# Altium schematic symbol library Schlib1.SchLib: 168 symbols (part 3 of 4)
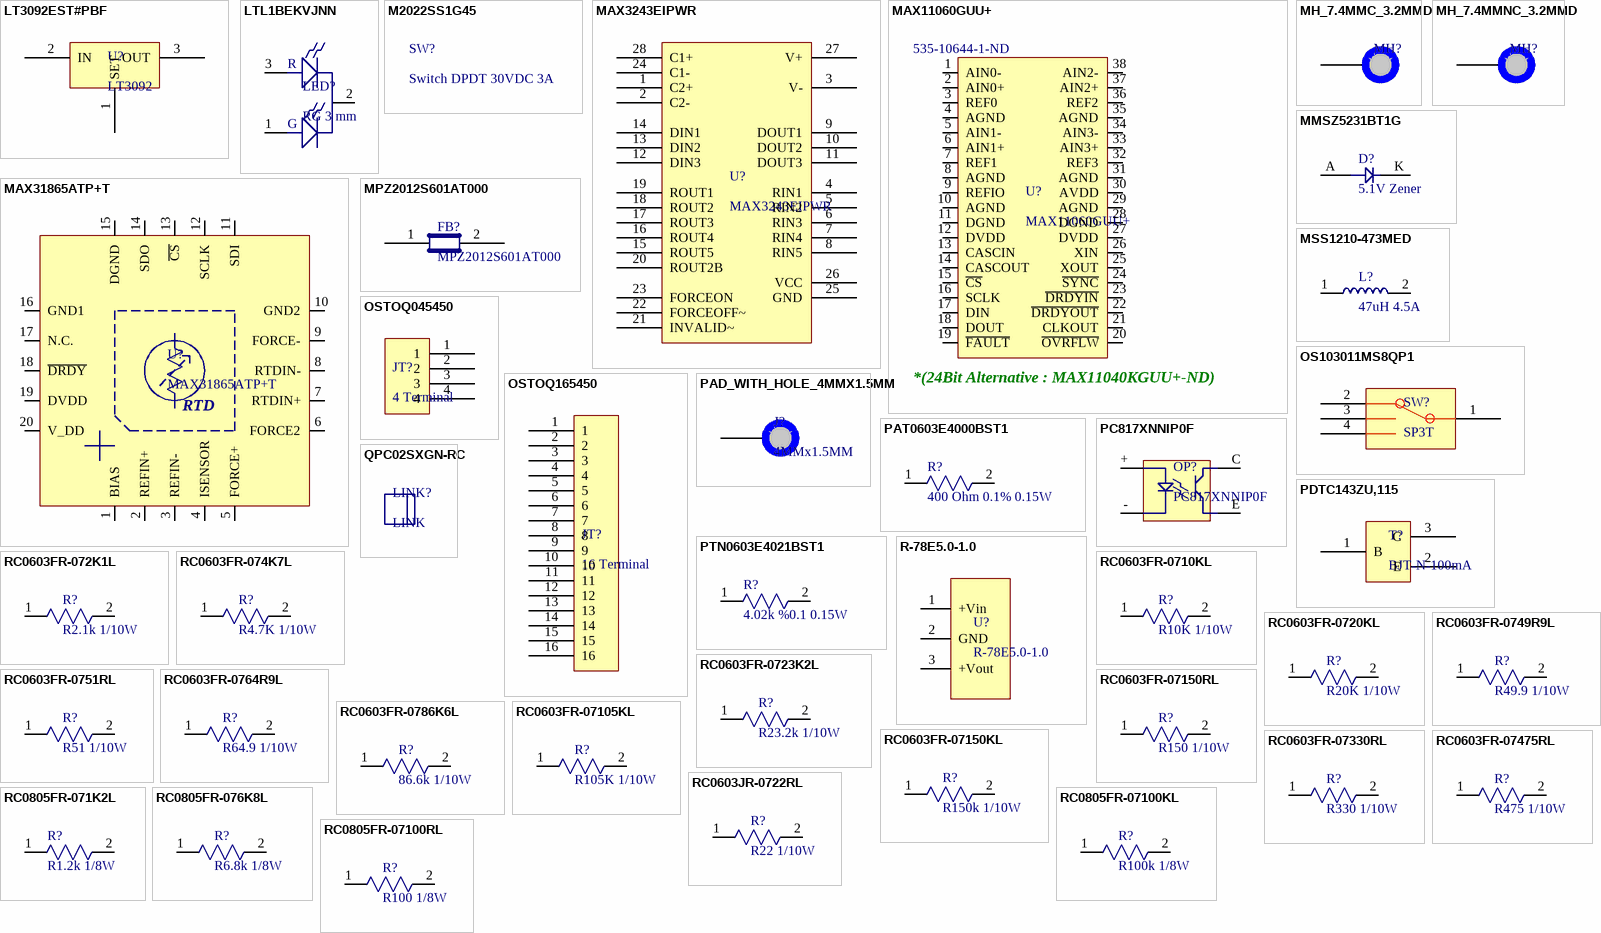
[diagram p7: symbols LT3092EST#PBF to RC0805FR-07100RL]

## MAX11060GUU+
designator U?  Supplier Part Number 2: 535-10644-1-ND
IC ADC 16BIT DELTA SIGMA 38TSSOP; Manufacturer: Maxim Integrated; Number of Bits: 16; Sampling Rate (Per Second): 64k; Number of Inputs: 4; Input Type: Differential; Data Interface: SPI; Architecture: Sigma-Delta; Reference Type: External, Internal; Voltage - Supply, Analog: 3 V ~ 3.6 V; Voltage - Supply, Digital: 2.7 V ~ 3.6 V; Frequency Stability: ±30ppm; Frequency Tolerance: ±20ppm; Load Capacitance: 18pF; Operating Mode: Fundamental; Supplier 1: Digi-Key; Manufacturer Part Number: MAX11060GUU+; RoHS: RoHS Compliant; Category: Integrated Circuits (ICs); Stock 1: 152; Pricing 1: 1=6.48, 10=6.218, 50=6.12 (USD); Packaging: Tube; Part Status: Active; Configuration: ADC; Ratio - S/H:ADC: -; Features: Simultaneous Sampling; Operating Temperature: -40°C ~ 105°C; Package / Case: 38-TFSOP (0.173", 4.40mm Width); Supplier Device Package: 38-TSSOP; Base Part Number: MAX11060; ComponentLink1URL: http://datasheets.maximintegrated.com/en/ds/MAX11040K-MAX11060.pdf; ComponentLink1Description: http://datasheets.maximintegrated.com/en/ds/MAX11040K-MAX11060.pdf; Supplier Part Number 1: MAX11060GUU+-ND; Supplier 2: Digi-Key; Stock 2: 4484; Pricing 2: 1=1.14, 10=1.012, 50=0.946, 100=0.836, 500=0.792 (USD); Type: MHz Crystal; Ratings: -; Mounting Type: Surface Mount; Size / Dimension: 0.197" L x 0.126" W (5.00mm x 3.20mm); Height - Seated (Max): 0.051" (1.30mm); ComponentLink2URL: http://www.abracon.com/Resonators/abm3.pdf; ComponentLink2Description: http://www.abracon.com/Resonators/abm3.pdf
footprint TSSOP50P640X110-38N_corrected (TSSOP, 38-Leads, Body 9.70x4.40mm, Pitch 0.50mm, IPC Medium Density)
pins: 1 AIN0-, 2 AIN0+, 3 REF0, 4 AGND, 5 AIN1-, 6 AIN1+, 7 REF1, 8 AGND, 9 REFIO, 10 AGND, 11 DGND, 12 DVDD, 13 CASCIN, 14 CASCOUT, 15 ~{CS}, 16 SCLK, 17 DIN, 18 DOUT, 19 ~{FAULT}, 20 ~{OVRFLW}, 21 CLKOUT, 22 ~{DRDYOUT}, 23 ~{DRDYIN}, 24 ~{SYNC}, 25 XOUT, 26 XIN, 27 DVDD, 28 DGND, 29 AGND, 30 AVDD, 31 AGND, 32 REF3, 33 AIN3+, 34 AIN3-, 35 AGND, 36 REF2, 37 AIN2+, 38 AIN2-
text: *(24Bit Alternative : MAX11040KGUU+-ND)

## MAX31865ATP+T
designator U?
IC RTD TO DIGITAL CONVERT 20TQFN; Manufacturer: Maxim Integrated; Function: Temp Monitoring System (Sensor); Sensor Type: External; Accuracy: ±0.5°C(Max); Topology: ADC (Sigma Delta), Comparator, Register Bank; Output Type: SPI; Output Alarm: No; Voltage - Supply: 3 V ~ 3.6 V; Supplier 1: Digi-Key; Manufacturer Part Number: MAX31865ATP+T; RoHS: RoHS Compliant; Category: Integrated Circuits (ICs); Stock 1: 11786; Pricing 1: 1=6.95, 10=6.554, 25=5.2428, 50=4.9806, 100=4.5875, 250=4.35156, 500=4.19426 (USD); Packaging: Cut Tape (CT); Part Status: Active; Sensing Temperature: -; Output Fan: No; Operating Temperature: -40°C ~ 125°C; Mounting Type: Surface Mount; Package / Case: 20-WQFN Exposed Pad; Supplier Device Package: 20-TQFN-EP (5x5); ComponentLink1URL: http://datasheets.maximintegrated.com/en/ds/MAX31865.pdf; ComponentLink1Description: http://datasheets.maximintegrated.com/en/ds/MAX31865.pdf; Supplier Part Number 1: MAX31865ATP+TCT-ND
footprint T2055+520TQFN_MAX31865_QFN65P500X500X80_HS-21N (QFN, 20-Leads, Body 5.00x5.00mm, Pitch 0.65mm, Thermal Pad 2.95x2.95mm, IPC Medium Density)
pins: 1 BIAS, 2 REFIN+, 3 REFIN-, 4 ISENSOR, 5 FORCE+, 6 FORCE2, 7 RTDIN+, 8 RTDIN-, 9 FORCE-, 10 GND2, 11 SDI, 12 SCLK, 13 ~{CS}, 14 SDO, 15 DGND, 16 GND1, 17 N.C., 18 ~{DRDY}, 19 DVDD, 20 V_DD
text: RTD

## MH_7.4MMC_3.2MMD
designator MH?  (value not drawn)  (no BOM)
Mounting Hole 7.4mm Diameter, 3.2mm Drill
footprint MH_7.4MMC_3.2MMD
pins: 1

## MH_7.4MMNC_3.2MMD
designator MH?  (value not drawn)  (no BOM)
Mounting Hole 7.4mm Diameter (Non Copper), 3.2mm Drill NPTH
footprint MH_7.4MMC_3.2MMD_NON_COPPER_NPTH
pins: 1

## MMSZ5231BT1G
designator D?, comment 5.1V Zener
DIODE ZENER 5.1V 500MW SOD123; Manufacturer: ON Semiconductor; Manufacturer Part Number: MMSZ5231BT1G; Tolerance: ±5%; Impedance (Max) (Zzt): 17 Ohm; Current - Reverse Leakage @ Vr: 5µA @ 2V; Voltage - Forward (Vf) (Max) @ If: 900mV @ 10mA; Supplier 1: Digi-Key; RoHS: RoHS Compliant; Category: Discrete Semiconductor Products; Stock 1: 24718; Pricing 1: 1=0.23, 10=0.192, 100=0.1016, 500=0.06682, 1000=0.04544 (USD); Packaging: Cut Tape (CT); Part Status: Active; Voltage - Zener (Nom) (Vz): 5.1V; Power - Max: 500mW; Operating Temperature: -55°C ~ 150°C; Mounting Type: Surface Mount; Package / Case: SOD-123; Supplier Device Package: SOD-123; ComponentLink1URL: http://www.onsemi.com/pub_link/Collateral/MMSZ5221BT1-D.PDF; ComponentLink1Description: http://www.onsemi.com/pub_link/Collateral/MMSZ5221BT1-D.PDF; Supplier Part Number 1: MMSZ5231BT1GOSCT-ND
footprint SOD-123
pins: A 1, K 2

## MPZ2012S601AT000
designator FB?
FERRITE BEAD 600 OHM 0805 1LN; Manufacturer: TDK Corporation; Filter Type: Power Line; Number of Lines: 1; Impedance @ Frequency: 600 Ohm @ 100MHz; Current Rating (Max): 2A; DC Resistance (DCR) (Max): 100 mOhm; Supplier 1: Digi-Key; Manufacturer Part Number: MPZ2012S601AT000; RoHS: RoHS Compliant; Category: Filters; Pricing 1: 1=0.11, 10=0.091, 25=0.0704, 50=0.0584, 100=0.0503, 250=0.04028, 500=0.03624, 1000=0.0302 (USD); Packaging: Cut Tape (CT); Part Status: Active; Ratings: -; Operating Temperature: -55°C ~ 125°C; Package / Case: 0805 (2012 Metric); Mounting Type: Surface Mount; Height (Max): 0.041" (1.05mm); Size / Dimension: 0.079" L x 0.049" W (2.00mm x 1.25mm); ComponentLink1URL: https://product.tdk.com/info/en/catalog/datasheets/beads_commercial_power_mpz2012_en.pdf; ComponentLink1Description: https://product.tdk.com/info/en/catalog/datasheets/beads_commercial_power_mpz2012_en.pdf; Supplier Part Number 1: 445-2206-1-ND; Stock: 308728
footprint C0805
pins: 1, 2

## MSS1210-473MED
designator L?, comment 47uH 4.5A
Man. PN: MSS1210-473MED; Man.: CoilCraft; Supplier: Farnell; Farnell PN: 2288335
footprint CoilC47
pins: 1, 2

## OS103011MS8QP1
designator SW?, comment SP3T
SWITCH SLIDE SP3T 100MA 12V; Manufacturer: C&K Components; Manufacturer Part Number: OS103011MS8QP1; Contact Timing: Not Specified; Switch Function: On-On-On; Current Rating: 100mA (DC); Actuator Type: Standard; Actuator Length: 4.00mm; Actuator Material: Polyoxymethylene (Acetal) (POM); Switch Travel: 2.00mm; Mechanical Life: 10,000 Cycles; Supplier 1: Digi-Key; RoHS: RoHS Compliant; Category: Switches; Stock 1: 13340; Pricing 1: 1=0.5, 10=0.482, 25=0.4724, 50=0.4222, 100=0.402, 250=0.39196, 500=0.33166, 1000=0.3216, 5000=0.2814 (USD); Packaging: Bulk; Circuit: SP3T; Voltage Rating - AC: -; Voltage Rating - DC: 12V; Contact Material: Copper Alloy; Contact Finish: Silver; Mounting Type: Through Hole; Termination Style: PC Pin; Features: Epoxy Sealed Terminals; Operating Temperature: -30°C ~ 70°C; Electrical Life: 10,000 Cycles; Operating Force: -; ComponentLink1URL: http://www.ck-components.com/media/1428/os.pdf; ComponentLink1Description: http://www.ck-components.com/media/1428/os.pdf; Supplier Part Number 1: CKN9543-ND
pins: 1, 2, 3, 4

## OSTOQ045450
designator JT?, comment 4 Terminal
TERM BLOCK HDR 4POS VERT 5.08MM; Manufacturer: On Shore Technology Inc.; Manufacturer Part Number: OSTOQ045450; Number of Positions: 4; Number of Levels: 1; Pitch: 0.200" (5.08mm); Header Orientation: Vertical; Current - UL: 20A; Voltage - UL: 300V; Supplier 1: Digi-Key; RoHS: RoHS Compliant; Category: Connectors, Interconnects; Stock 1: 3848; Pricing 1: 1=0.47, 10=0.438, 50=0.3504, 100=0.3358, 250=0.3066, 500=0.292, 1000=0.2409, 2500=0.219, 5000=0.2117 (USD); Packaging: Bulk; Part Status: Active; Type: Header, Male Pins, Shrouded (4 Side); Positions Per Level: 4; Plug Wire Entry: -; Termination Style: Solder; Mounting Type: Through Hole; Current - IEC: -; Voltage - IEC: -; Wire Gauge or Range - AWG: -; Wire Gauge or Range - mm²: -; Color: Green; Operating Temperature: -30°C ~ 105°C; Contact Mating Finish: Tin; Features: -; ComponentLink1URL: http://www.on-shore.com/wp-content/uploads/2015/09/ostoqxx5450.pdf; ComponentLink1Description: http://www.on-shore.com/wp-content/uploads/2015/09/ostoqxx5450.pdf; Supplier Part Number 1: ED2845-ND
footprint 5.08x4
pins: 1, 2, 3, 4

## OSTOQ165450
designator JT?, comment 16 Terminal
TERM BLOCK HDR 16POS VERT 5.08MM; Manufacturer: On Shore Technology Inc.; Manufacturer Part Number: OSTOQ165450; Number of Positions: 16; Number of Levels: 1; Pitch: 0.200" (5.08mm); Header Orientation: Vertical; Current - UL: 20A; Voltage - UL: 300V; Supplier 1: Digi-Key; RoHS: RoHS Compliant; Category: Connectors, Interconnects; Stock 1: 131; Pricing 1: 1=1.58, 10=1.431, 50=1.2848, 100=1.2264, 250=1.1096, 500=1.022, 1000=0.876, 2500=0.8176, 5000=0.77672 (USD); Packaging: Bulk; Type: Header, Male Pins, Shrouded (4 Side); Positions Per Level: 16; Plug Wire Entry: -; Termination Style: Solder; Mounting Type: Through Hole; Current - IEC: -; Voltage - IEC: -; Wire Gauge or Range - AWG: -; Wire Gauge or Range - mm²: -; Color: Green; Operating Temperature: -30°C ~ 105°C; Contact Mating Finish: Tin; Features: -; ComponentLink1URL: http://www.on-shore.com/wp-content/uploads/2015/09/ostoqxx5450.pdf; ComponentLink1Description: http://www.on-shore.com/wp-content/uploads/2015/09/ostoqxx5450.pdf; Supplier Part Number 1: ED2842-ND
footprint 5.08x16
pins: 1, 2, 3, 4, 5, 6, 7, 8, 9, 10, 11, 12, 13, 14, 15, 16

## PAD_WITH_HOLE_4MMX1.5MM
designator J?, comment 4MMx1.5MM  (no BOM)
Pad with a hole 4mm x 1.5mm
footprint PAD_WITH_HOLE_4MMX1.5MM
pins: 1

## PAT0603E4000BST1
designator R?, comment 400 Ohm 0.1% 0.15W
RES SMD 400 OHM 0.1% 0.15W 0603; Manufacturer: Vishay Thin Film; Manufacturer Part Number: PAT0603E4000BST1; Temperature Coefficient: ±25ppm/°C; Supplier 1: Digi-Key; RoHS: RoHS Compliant; Category: Resistors; Stock 1: 15792; Pricing 1: 1=0.97, 10=0.839, 100=0.5844 (USD); Packaging: Cut Tape (CT); Part Status: Active; Tolerance: ±0.1%; Power (Watts): 0.15W; Composition: Thin Film; Features: Anti-Sulfur, Automotive AEC-Q200, Moisture Resistant; Operating Temperature: -55°C ~ 155°C; Package / Case: 0603 (1608 Metric); Supplier Device Package: 0603; Size / Dimension: 0.064" L x 0.032" W (1.63mm x 0.81mm); Height - Seated (Max): 0.018" (0.46mm); Failure Rate: -; ComponentLink1URL: http://www.vishay.com/docs/60024/pat.pdf; ComponentLink1Description: http://www.vishay.com/docs/60024/pat.pdf; Supplier Part Number 1: PAT400ACT-ND
footprint R0603 - Thin Film Res
pins: 1, 2

## PC817XNNIP0F
designator OP?
OPTOISOLATOR 5KV TRANS 4SMD; Manufacturer: Sharp Microelectronics; Number of Channels: 1; Voltage - Isolation: 5000Vrms; Current Transfer Ratio (Min): 50% @ 5mA; Current Transfer Ratio (Max): 600% @ 5mA; Rise / Fall Time (Typ): 4µs, 3µs; Input Type: DC; Output Type: Transistor; Voltage - Output (Max): 80V; Current - Output / Channel: 50mA; Voltage - Forward (Vf) (Typ): 1.2V; Vce Saturation (Max): 200mV; Supplier 1: Digi-Key; Manufacturer Part Number: PC817XNNIP0F; RoHS: RoHS Compliant; Category: Isolators; Stock 1: 39296; Pricing 1: 1=0.59, 10=0.463, 25=0.386, 100=0.3326, 250=0.297, 500=0.25542, 1000=0.19721 (USD); Packaging: Cut Tape (CT); Turn On / Turn Off Time (Typ): -; Current - DC Forward (If) (Max): 50mA; Operating Temperature: -30°C ~ 100°C; Mounting Type: Surface Mount; Package / Case: 4-SMD, Gull Wing; Supplier Device Package: 4-SMD; ComponentLink1URL: http://www.sharpsma.com/webfm_send/1835; ComponentLink1Description: http://www.sharpsma.com/webfm_send/1835; Supplier Part Number 1: 425-2774-1-ND
pins: + 1, - 2, C 4, E 3

## PDTC143ZU,115
designator T?, comment BJT-N-100mA
TRANS PREBIAS NPN 200MW SOT323; Manufacturer: NXP USA Inc.; Manufacturer Part Number: PDTC143ZU,115; Transistor Type: NPN - Pre-Biased; Current - Collector (Ic) (Max): 100mA; Voltage - Collector Emitter Breakdown (Max): 50V; Resistor - Base (R1) (Ohms): 4.7k; Resistor - Emitter Base (R2) (Ohms): 47k; DC Current Gain (hFE) (Min) @ Ic, Vce: 100 @ 10mA, 5V; Vce Saturation (Max) @ Ib, Ic: 100mV @ 250µA, 5mA; Current - Collector Cutoff (Max): 1µA; Supplier 1: Digi-Key; RoHS: RoHS Compliant; Category: Discrete Semiconductor Products; Stock 1: 5260; Pricing 1: 1=0.33, 10=0.247, 100=0.14, 500=0.0927, 1000=0.07107 (USD); Packaging: Cut Tape (CT); Part Status: Active; Frequency - Transition: -; Power - Max: 200mW; Mounting Type: Surface Mount; Package / Case: SC-70, SOT-323; Supplier Device Package: SOT-323-3; ComponentLink1URL: http://www.nxp.com/documents/data_sheet/PDTC143Z_SER.pdf; ComponentLink1Description: http://www.nxp.com/documents/data_sheet/PDTC143Z_SER.pdf; Supplier Part Number 1: 568-11256-1-ND
footprint SOT323-SC70
pins: 1 B, 2 E, 3 C

## PTN0603E4021BST1
designator R?, comment 4.02k %0.1 0.15W
RES 4.02K OHM 0.1% 0.15W 0603; Manufacturer: Vishay Thin Film; Manufacturer Part Number: PTN0603E4021BST1; Temperature Coefficient: ±25ppm/°C; Supplier 1: Digi-Key; RoHS: RoHS Compliant; Category: Resistors; Stock 1: 2000; Pricing 1: 1=0.73, 10=0.606, 100=0.4071 (USD); Packaging: Cut Tape (CT); Part Status: Active; Tolerance: ±0.1%; Power (Watts): 0.15W; Composition: Thin Film; Features: Anti-Sulfur, Moisture Resistant, Non-Inductive; Operating Temperature: -55°C ~ 155°C; Package / Case: 0603 (1608 Metric); Supplier Device Package: 0603; Size / Dimension: 0.064" L x 0.032" W (1.63mm x 0.81mm); Height - Seated (Max): 0.020" (0.51mm); Failure Rate: -; ComponentLink1URL: http://www.vishay.com/docs/60026/ptn.pdf; ComponentLink1Description: http://www.vishay.com/docs/60026/ptn.pdf; Supplier Part Number 1: 764-1430-1-ND
footprint R0603 - Thin Film Res
pins: 1, 2

## QPC02SXGN-RC
designator LINK?, comment LINK  (mechanical)
CONN JUMPER SHORTING .100" GOLD; Manufacturer: Sullins Connector Solutions; Manufacturer Part Number: QPC02SXGN-RC; Gender: Female Sockets; Number of Positions or Pins (Grid): 2 (1 x 2); Pitch: 0.100" (2.54mm); Supplier 1: Digi-Key; RoHS: RoHS Compliant; Category: Connectors, Interconnects; Stock: 193061; Pricing 1: 1=0.13, 10=0.077, 25=0.0548, 50=0.0448, 100=0.0385, 250=0.03256, 500=0.0301, 1000=0.0266, 2500=0.021 (USD); Packaging: Bulk; Part Status: Active; Type: Open Top; Height: 0.235" (5.97mm); Contact Finish: Gold; Contact Finish Thickness: Flash; Color: Black; ComponentLink1URL: http://www.sullinscorp.com/drawings/284_SXGN_11510.pdf; ComponentLink1Description: http://www.sullinscorp.com/drawings/284_SXGN_11510.pdf; Supplier Part Number 1: S9337-ND

## R-78E5.0-1.0
designator U?
DC/DC CONVERTER 5V 5W; Manufacturer: Recom Power; Voltage - Input (Min): 8V; Voltage - Input (Max): 28V; Current - Output (Max): 1A; Efficiency: 91%; Supplier 1: Digi-Key; Manufacturer Part Number: R-78E5.0-1.0; RoHS: RoHS Compliant; Category: Power Supplies - Board Mount; Stock 1: 13022; Pricing 1: 1=3.26, 5=3.208, 10=3.162, 25=3.0692, 50=2.976, 100=2.883, 250=2.79, 500=2.604 (USD); Packaging: Tube; Part Status: Active; Type: Linear Regulator Replacement; Voltage - Output 1: 5V; Voltage - Output 2: -; Voltage - Output 3: -; Applications: ITE (Commercial); Features: SCP; Operating Temperature: -40°C ~ 85°C; Mounting Type: Through Hole; Package / Case: 3-SIP Module; Size / Dimension: 0.46" L x 0.33" W x 0.41" H (11.6mm x 8.5mm x 10.4mm); Control Features: -; ComponentLink1URL: https://www.recom-power.com/pdf/Innoline/R-78Exx-1.0.pdf; ComponentLink1Description: https://www.recom-power.com/pdf/Innoline/R-78Exx-1.0.pdf; Supplier Part Number 1: 945-2201-ND
footprint SIP3
pins: 1 +Vin, 2 GND, 3 +Vout

## RC0603FR-072K1L
designator R?, comment R2.1k 1/10W
RES SMD 2.1K OHM 1% 1/10W 0603; Manufacturer: Yageo; Manufacturer Part Number: RC0603FR-072K1L; Power (Watts): 0.1W, 1/10W; Temperature Coefficient: ±100ppm/°C; Supplier 1: Digi-Key; RoHS: RoHS Compliant; Category: Resistors; Stock 1: 226179; Pricing 1: 1=0.1, 10=0.013, 25=0.0092, 50=0.007, 100=0.0052, 250=0.00396, 500=0.00316, 1000=0.00233 (USD); Packaging: Cut Tape (CT); Part Status: Active; Resistance (Ohms): 2.1k; Tolerance: ±1%; Composition: Thick Film; Features: Moisture Resistant; Operating Temperature: -55°C ~ 155°C; Package / Case: 0603 (1608 Metric); Supplier Device Package: 0603; Size / Dimension: 0.063" L x 0.031" W (1.60mm x 0.80mm); Height - Seated (Max): 0.022" (0.55mm); Number of Terminations: 2; Failure Rate: -; ComponentLink1URL: http://www.yageo.com/NewPortal/yageodocoutput?fileName=/pdf/R-Chip/PYu-RC_Group_51_RoHS_L_4.pdf; ComponentLink1Description: http://www.yageo.com/NewPortal/yageodocoutput?fileName=/pdf/R-Chip/PYu-RC_Group_51_RoHS_L_4.pdf; Supplier Part Number 1: 311-2.10KHRCT-ND
footprint R0603
pins: 1, 2

## RC0603FR-074K7L
designator R?, comment R4.7K 1/10W
RES SMD 4.7K OHM 1% 1/10W 0603; Manufacturer: Yageo; Manufacturer Part Number: RC0603FR-074K7L; Power (Watts): 0.1W, 1/10W; Temperature Coefficient: ±100ppm/°C; Supplier 1: Digi-Key; RoHS: RoHS Compliant; Category: Resistors; Stock 1: 1238077; Pricing 1: 1=0.1, 10=0.014, 25=0.01, 100=0.0057, 250=0.00436, 500=0.00348, 1000=0.00257, 2500=0.00223 (USD); Packaging: Cut Tape (CT); Resistance (Ohms): 4.7k; Tolerance: ±1%; Composition: Thick Film; Features: Moisture Resistant; Operating Temperature: -55°C ~ 155°C; Package / Case: 0603 (1608 Metric); Supplier Device Package: 0603; Size / Dimension: 0.063" L x 0.031" W (1.60mm x 0.80mm); Height: 0.022" (0.55mm); Number of Terminations: 2; ComponentLink1URL: http://www.yageo.com/documents/recent/PYu-RC_Group_51_RoHS_L_04.pdf; ComponentLink1Description: http://www.yageo.com/documents/recent/PYu-RC_Group_51_RoHS_L_04.pdf; Supplier Part Number 1: 311-4.70KHRCT-ND
footprint R0603
pins: 1, 2

## RC0603FR-0710KL
designator R?, comment R10K 1/10W
RES SMD 10K OHM 1% 1/10W 0603; Manufacturer: Yageo; Manufacturer Part Number: RC0603FR-0710KL; Power (Watts): 0.1W, 1/10W; Temperature Coefficient: ±100ppm/°C; Supplier 1: Digi-Key; RoHS: RoHS Compliant; Category: Resistors; Stock 1: 14638740; Pricing 1: 1=0.1, 10=0.014, 25=0.01, 100=0.0057, 250=0.00436, 500=0.00348, 1000=0.00257, 2500=0.00223 (USD); Packaging: Cut Tape (CT); Resistance (Ohms): 10k; Tolerance: ±1%; Composition: Thick Film; Features: Moisture Resistant; Operating Temperature: -55°C ~ 155°C; Package / Case: 0603 (1608 Metric); Supplier Device Package: 0603; Size / Dimension: 0.063" L x 0.031" W (1.60mm x 0.80mm); Height: 0.022" (0.55mm); Number of Terminations: 2; ComponentLink1URL: http://www.yageo.com/documents/recent/PYu-RC_Group_51_RoHS_L_04.pdf; ComponentLink1Description: http://www.yageo.com/documents/recent/PYu-RC_Group_51_RoHS_L_04.pdf; Supplier Part Number 1: 311-10.0KHRCT-ND
footprint R0603
pins: 1, 2

## RC0603FR-0720KL
designator R?, comment R20K 1/10W
RES SMD 20K OHM 1% 1/10W 0603; Manufacturer: Yageo; Manufacturer Part Number: RC0603FR-0720KL; Power (Watts): 0.1W, 1/10W; Temperature Coefficient: ±100ppm/°C; Supplier 1: Digi-Key; RoHS: RoHS Compliant; Category: Resistors; Stock 1: 1549434; Pricing 1: 1=0.1, 10=0.014, 25=0.01, 100=0.0057, 250=0.00436, 500=0.00348, 1000=0.00257, 2500=0.00223 (USD); Packaging: Cut Tape (CT); Resistance (Ohms): 20k; Tolerance: ±1%; Composition: Thick Film; Features: Moisture Resistant; Operating Temperature: -55°C ~ 155°C; Package / Case: 0603 (1608 Metric); Supplier Device Package: 0603; Size / Dimension: 0.063" L x 0.031" W (1.60mm x 0.80mm); Height: 0.022" (0.55mm); Number of Terminations: 2; ComponentLink1URL: http://www.yageo.com/documents/recent/PYu-RC_Group_51_RoHS_L_04.pdf; ComponentLink1Description: http://www.yageo.com/documents/recent/PYu-RC_Group_51_RoHS_L_04.pdf; Supplier Part Number 1: 311-20.0KHRCT-ND
footprint R0603
pins: 1, 2

## RC0603FR-0723K2L
designator R?, comment R23.2k 1/10W
RES SMD 23.2K OHM 1% 1/10W 0603; Manufacturer: Yageo; Manufacturer Part Number: RC0603FR-0723K2L; Power (Watts): 0.1W, 1/10W; Temperature Coefficient: ±100ppm/°C; Supplier 1: Digi-Key; RoHS: RoHS Compliant; Category: Resistors; Stock 1: 182748; Pricing 1: 1=0.1, 10=0.014, 25=0.01, 100=0.0057, 250=0.00436, 500=0.00348, 1000=0.00257, 2500=0.00223 (USD); Packaging: Cut Tape (CT); Resistance (Ohms): 23.2k; Tolerance: ±1%; Composition: Thick Film; Features: Moisture Resistant; Operating Temperature: -55°C ~ 155°C; Package / Case: 0603 (1608 Metric); Supplier Device Package: 0603; Size / Dimension: 0.063" L x 0.031" W (1.60mm x 0.80mm); Height: 0.022" (0.55mm); Number of Terminations: 2; ComponentLink1URL: http://www.yageo.com/documents/recent/PYu-RC_Group_51_RoHS_L_04.pdf; ComponentLink1Description: http://www.yageo.com/documents/recent/PYu-RC_Group_51_RoHS_L_04.pdf; Supplier Part Number 1: 311-23.2KHRCT-ND
footprint R0603
pins: 1, 2

## RC0603FR-0749R9L
designator R?, comment R49.9 1/10W
RES SMD 49.9 OHM 1% 1/10W 0603; Manufacturer: Yageo; Manufacturer Part Number: RC0603FR-0749R9L; Resistance (Ohms): 49.9; Power (Watts): 0.1W, 1/10W; Temperature Coefficient: ±100ppm/°C; Supplier 1: Digi-Key; RoHS: RoHS Compliant; Category: Resistors; Stock 1: 2228089; Pricing 1: 1=0.1, 10=0.014, 25=0.01, 100=0.0057, 250=0.00436, 500=0.00348, 1000=0.00257, 2500=0.00223 (USD); Packaging: Cut Tape (CT); Tolerance: ±1%; Composition: Thick Film; Features: Moisture Resistant; Operating Temperature: -55°C ~ 155°C; Package / Case: 0603 (1608 Metric); Supplier Device Package: 0603; Size / Dimension: 0.063" L x 0.031" W (1.60mm x 0.80mm); Height: 0.022" (0.55mm); Number of Terminations: 2; ComponentLink1URL: http://www.yageo.com/documents/recent/PYu-RC_Group_51_RoHS_L_04.pdf; ComponentLink1Description: http://www.yageo.com/documents/recent/PYu-RC_Group_51_RoHS_L_04.pdf; Supplier Part Number 1: 311-49.9HRCT-ND
footprint R0603
pins: 1, 2

## RC0603FR-0751RL
designator R?, comment R51 1/10W
RES SMD 51 OHM 1% 1/10W 0603; Manufacturer: Yageo; Manufacturer Part Number: RC0603FR-0751RL; Resistance (Ohms): 51; Power (Watts): 0.1W, 1/10W; Temperature Coefficient: ±100ppm/°C; Supplier 1: Digi-Key; RoHS: RoHS Compliant; Category: Resistors; Stock 1: 178268; Pricing 1: 1=0.1, 10=0.013, 25=0.0092, 50=0.007, 100=0.0052, 250=0.00396, 500=0.00316, 1000=0.00233 (USD); Packaging: Cut Tape (CT); Part Status: Active; Tolerance: ±1%; Composition: Thick Film; Features: Moisture Resistant; Operating Temperature: -55°C ~ 155°C; Package / Case: 0603 (1608 Metric); Supplier Device Package: 0603; Size / Dimension: 0.063" L x 0.031" W (1.60mm x 0.80mm); Height - Seated (Max): 0.022" (0.55mm); Number of Terminations: 2; Failure Rate: -; ComponentLink1URL: http://www.yageo.com/NewPortal/yageodocoutput?fileName=/pdf/R-Chip/PYu-RC_Group_51_RoHS_L_4.pdf; ComponentLink1Description: http://www.yageo.com/NewPortal/yageodocoutput?fileName=/pdf/R-Chip/PYu-RC_Group_51_RoHS_L_4.pdf; Supplier Part Number 1: 311-51.0HRCT-ND
footprint R0603
pins: 1, 2

## RC0603FR-0764R9L
designator R?, comment R64.9 1/10W
RES SMD 64.9 OHM 1% 1/10W 0603; Manufacturer: Yageo; Manufacturer Part Number: RC0603FR-0764R9L; Resistance (Ohms): 64.9; Power (Watts): 0.1W, 1/10W; Temperature Coefficient: ±100ppm/°C; Supplier 1: Digi-Key; RoHS: RoHS Compliant; Category: Resistors; Stock 1: 97991; Pricing 1: 1=0.1, 10=0.014, 25=0.01, 100=0.0057, 250=0.00436, 500=0.00348, 1000=0.00257, 2500=0.00223 (USD); Packaging: Cut Tape (CT); Tolerance: ±1%; Composition: Thick Film; Features: Moisture Resistant; Operating Temperature: -55°C ~ 155°C; Package / Case: 0603 (1608 Metric); Supplier Device Package: 0603; Size / Dimension: 0.063" L x 0.031" W (1.60mm x 0.80mm); Height: 0.022" (0.55mm); Number of Terminations: 2; ComponentLink1URL: http://www.yageo.com/documents/recent/PYu-RC_Group_51_RoHS_L_04.pdf; ComponentLink1Description: http://www.yageo.com/documents/recent/PYu-RC_Group_51_RoHS_L_04.pdf; Supplier Part Number 1: 311-64.9HRCT-ND
footprint R0603
pins: 1, 2

## RC0603FR-0786K6L
designator R?, comment 86.6k 1/10W
RES SMD 86.6K OHM 1% 1/10W 0603; Manufacturer: Yageo; Manufacturer Part Number: RC0603FR-0786K6L; Power (Watts): 0.1W, 1/10W; Temperature Coefficient: ±100ppm/°C; Supplier 1: Digi-Key; RoHS: RoHS Compliant; Category: Resistors; Stock 1: 484429; Pricing 1: 1=0.1, 10=0.015, 100=0.006, 1000=0.00268, 2500=0.00233 (USD); Packaging: Cut Tape (CT); Part Status: Active; Tolerance: ±1%; Composition: Thick Film; Features: Moisture Resistant; Operating Temperature: -55°C ~ 155°C; Package / Case: 0603 (1608 Metric); Supplier Device Package: 0603; Size / Dimension: 0.063" L x 0.032" W (1.60mm x 0.80mm); Height - Seated (Max): 0.022" (0.55mm); Failure Rate: -; ComponentLink1URL: http://www.yageo.com/documents/recent/PYu-RC_Group_51_RoHS_L_8.pdf; ComponentLink1Description: http://www.yageo.com/documents/recent/PYu-RC_Group_51_RoHS_L_8.pdf; Supplier Part Number 1: 311-86.6KHRCT-ND
footprint R0603
pins: 1, 2

## RC0603FR-07105KL
designator R?, comment R105K 1/10W
RES SMD 105K OHM 1% 1/10W 0603; Manufacturer: Yageo; Manufacturer Part Number: RC0603FR-07105KL; Power (Watts): 0.1W, 1/10W; Temperature Coefficient: ±100ppm/°C; Supplier 1: Digi-Key; RoHS: RoHS Compliant; Category: Resistors; Stock 1: 39024; Pricing 1: 1=0.1, 10=0.014, 25=0.01, 100=0.0057, 250=0.00436, 500=0.00348, 1000=0.00257, 2500=0.00223 (USD); Packaging: Cut Tape (CT); Resistance (Ohms): 105k; Tolerance: ±1%; Composition: Thick Film; Features: Moisture Resistant; Operating Temperature: -55°C ~ 155°C; Package / Case: 0603 (1608 Metric); Supplier Device Package: 0603; Size / Dimension: 0.063" L x 0.031" W (1.60mm x 0.80mm); Height: 0.022" (0.55mm); Number of Terminations: 2; ComponentLink1URL: http://www.yageo.com/documents/recent/PYu-RC_Group_51_RoHS_L_04.pdf; ComponentLink1Description: http://www.yageo.com/documents/recent/PYu-RC_Group_51_RoHS_L_04.pdf; Supplier Part Number 1: 311-105KHRCT-ND
footprint R0603
pins: 1, 2

## RC0603FR-07150KL
designator R?, comment R150k 1/10W
RES SMD 150K OHM 1% 1/10W 0603; Manufacturer: Yageo; Manufacturer Part Number: RC0603FR-07150KL; Power (Watts): 0.1W, 1/10W; Temperature Coefficient: ±100ppm/°C; Supplier 1: Digi-Key; RoHS: RoHS Compliant; Category: Resistors; Stock 1: 400843; Pricing 1: 1=0.1, 10=0.014, 25=0.01, 100=0.0057, 250=0.00436, 500=0.00348, 1000=0.00257, 2500=0.00223 (USD); Packaging: Cut Tape (CT); Resistance (Ohms): 150k; Tolerance: ±1%; Composition: Thick Film; Features: Moisture Resistant; Operating Temperature: -55°C ~ 155°C; Package / Case: 0603 (1608 Metric); Supplier Device Package: 0603; Size / Dimension: 0.063" L x 0.031" W (1.60mm x 0.80mm); Height: 0.022" (0.55mm); Number of Terminations: 2; ComponentLink1URL: http://www.yageo.com/documents/recent/PYu-RC_Group_51_RoHS_L_04.pdf; ComponentLink1Description: http://www.yageo.com/documents/recent/PYu-RC_Group_51_RoHS_L_04.pdf; Supplier Part Number 1: 311-150KHRCT-ND
footprint R0603
pins: 1, 2

## RC0603FR-07150RL
designator R?, comment R150 1/10W
RES SMD 150 OHM 1% 1/10W 0603; Manufacturer: Yageo; Manufacturer Part Number: RC0603FR-07150RL; Resistance (Ohms): 150; Power (Watts): 0.1W, 1/10W; Temperature Coefficient: ±100ppm/°C; Supplier 1: Digi-Key; RoHS: RoHS Compliant; Category: Resistors; Stock 1: 361548; Pricing 1: 1=0.1, 10=0.014, 25=0.01, 100=0.0057, 250=0.00436, 500=0.00348, 1000=0.00257, 2500=0.00223 (USD); Packaging: Cut Tape (CT); Tolerance: ±1%; Composition: Thick Film; Features: Moisture Resistant; Operating Temperature: -55°C ~ 155°C; Package / Case: 0603 (1608 Metric); Supplier Device Package: 0603; Size / Dimension: 0.063" L x 0.031" W (1.60mm x 0.80mm); Height: 0.022" (0.55mm); Number of Terminations: 2; ComponentLink1URL: http://www.yageo.com/documents/recent/PYu-RC_Group_51_RoHS_L_04.pdf; ComponentLink1Description: http://www.yageo.com/documents/recent/PYu-RC_Group_51_RoHS_L_04.pdf; Supplier Part Number 1: 311-150HRCT-ND
footprint R0603
pins: 1, 2

## RC0603FR-07330RL
designator R?, comment R330 1/10W
RES SMD 330 OHM 1% 1/10W 0603; Manufacturer: Yageo; Manufacturer Part Number: RC0603FR-07330RL; Resistance (Ohms): 330; Power (Watts): 0.1W, 1/10W; Temperature Coefficient: ±100ppm/°C; Supplier 1: Digi-Key; RoHS: RoHS Compliant; Category: Resistors; Stock 1: 271405; Pricing 1: 1=0.1, 10=0.014, 25=0.01, 100=0.0057, 250=0.00436, 500=0.00348, 1000=0.00257, 2500=0.00223 (USD); Packaging: Cut Tape (CT); Tolerance: ±1%; Composition: Thick Film; Features: Moisture Resistant; Operating Temperature: -55°C ~ 155°C; Package / Case: 0603 (1608 Metric); Supplier Device Package: 0603; Size / Dimension: 0.063" L x 0.031" W (1.60mm x 0.80mm); Height: 0.022" (0.55mm); Number of Terminations: 2; ComponentLink1URL: http://www.yageo.com/documents/recent/PYu-RC_Group_51_RoHS_L_04.pdf; ComponentLink1Description: http://www.yageo.com/documents/recent/PYu-RC_Group_51_RoHS_L_04.pdf; Supplier Part Number 1: 311-330HRCT-ND
footprint R0603
pins: 1, 2

## RC0603FR-07475RL
designator R?, comment R475 1/10W
RES SMD 475 OHM 1% 1/10W 0603; Manufacturer: Yageo; Manufacturer Part Number: RC0603FR-07475RL; Resistance (Ohms): 475; Power (Watts): 0.1W, 1/10W; Temperature Coefficient: ±100ppm/°C; Supplier 1: Digi-Key; RoHS: RoHS Compliant; Category: Resistors; Stock 1: 164914; Pricing 1: 1=0.1, 10=0.014, 25=0.01, 100=0.0057, 250=0.00436, 500=0.00348, 1000=0.00257, 2500=0.00223 (USD); Packaging: Cut Tape (CT); Tolerance: ±1%; Composition: Thick Film; Features: Moisture Resistant; Operating Temperature: -55°C ~ 155°C; Package / Case: 0603 (1608 Metric); Supplier Device Package: 0603; Size / Dimension: 0.063" L x 0.031" W (1.60mm x 0.80mm); Height: 0.022" (0.55mm); Number of Terminations: 2; ComponentLink1URL: http://www.yageo.com/documents/recent/PYu-RC_Group_51_RoHS_L_04.pdf; ComponentLink1Description: http://www.yageo.com/documents/recent/PYu-RC_Group_51_RoHS_L_04.pdf; Supplier Part Number 1: 311-475HRCT-ND
footprint R0603
pins: 1, 2

## RC0603JR-0722RL
designator R?, comment R22 1/10W
RES SMD 22 OHM 5% 1/10W 0603; Manufacturer: Yageo; Manufacturer Part Number: RC0603JR-0722RL; Resistance (Ohms): 22; Power (Watts): 0.1W, 1/10W; Temperature Coefficient: ±100ppm/°C; Supplier 1: Digi-Key; RoHS: RoHS Compliant; Category: Resistors; Stock 1: 387170; Pricing 1: 1=0.1, 10=0.011, 25=0.008, 100=0.0044, 250=0.00336, 500=0.0027, 1000=0.00198, 2500=0.00172 (USD); Packaging: Cut Tape (CT); Tolerance: ±5%; Composition: Thick Film; Features: Moisture Resistant; Operating Temperature: -55°C ~ 155°C; Package / Case: 0603 (1608 Metric); Supplier Device Package: 0603; Size / Dimension: 0.063" L x 0.031" W (1.60mm x 0.80mm); Height: 0.022" (0.55mm); Number of Terminations: 2; ComponentLink1URL: http://www.yageo.com/documents/recent/PYu-RC_Group_51_RoHS_L_04.pdf; ComponentLink1Description: http://www.yageo.com/documents/recent/PYu-RC_Group_51_RoHS_L_04.pdf; Supplier Part Number 1: 311-22GRCT-ND
footprint R0603
pins: 1, 2

## RC0805FR-071K2L
designator R?, comment R1.2k 1/8W
RES SMD 1.2K OHM 1% 1/8W 0805; Manufacturer: Yageo; Manufacturer Part Number: RC0805FR-071K2L; Power (Watts): 0.125W, 1/8W; Temperature Coefficient: ±100ppm/°C; Supplier 1: Digi-Key; RoHS: RoHS Compliant; Category: Resistors; Stock 1: 718742; Pricing 1: 1=0.1, 10=0.022, 100=0.0088, 1000=0.00396, 2500=0.00344 (USD); Packaging: Digi-Reel®; Part Status: Active; Tolerance: ±1%; Composition: Thick Film; Features: Moisture Resistant; Operating Temperature: -55°C ~ 155°C; Package / Case: 0805 (2012 Metric); Supplier Device Package: 0805; Size / Dimension: 0.079" L x 0.049" W (2.00mm x 1.25mm); Height - Seated (Max): 0.024" (0.60mm); Failure Rate: -; ComponentLink1URL: http://www.yageo.com/documents/recent/PYu-RC_Group_51_RoHS_L_8.pdf; ComponentLink1Description: http://www.yageo.com/documents/recent/PYu-RC_Group_51_RoHS_L_8.pdf; Supplier Part Number 1: 311-1.20KCRDKR-ND
footprint R0805
pins: 1, 2

## RC0805FR-076K8L
designator R?, comment R6.8k 1/8W
RES SMD 6.8K OHM 1% 1/8W 0805; Manufacturer: Yageo; Manufacturer Part Number: RC0805FR-076K8L; Power (Watts): 0.125W, 1/8W; Temperature Coefficient: ±100ppm/°C; Supplier 1: Digi-Key; RoHS: RoHS Compliant; Category: Resistors; Stock 1: 309574; Pricing 1: 1=0.1, 10=0.021, 25=0.0152, 100=0.0084, 250=0.00644, 500=0.00514, 1000=0.00379, 2500=0.00329 (USD); Packaging: Cut Tape (CT); Part Status: Active; Resistance (Ohms): 6.8k; Tolerance: ±1%; Composition: Thick Film; Features: Moisture Resistant; Operating Temperature: -55°C ~ 155°C; Package / Case: 0805 (2012 Metric); Supplier Device Package: 0805; Size / Dimension: 0.079" L x 0.049" W (2.00mm x 1.25mm); Height: 0.024" (0.60mm); Number of Terminations: 2; Failure Rate: -; ComponentLink1URL: http://www.yageo.com/documents/recent/PYu-RC_Group_51_RoHS_L_04.pdf; ComponentLink1Description: http://www.yageo.com/documents/recent/PYu-RC_Group_51_RoHS_L_04.pdf; Supplier Part Number 1: 311-6.80KCRCT-ND
footprint R0805
pins: 1, 2

## RC0805FR-07100KL
designator R?, comment R100k 1/8W
RES SMD 100K OHM 1% 1/8W 0805; Manufacturer: Yageo; Manufacturer Part Number: RC0805FR-07100KL; Power (Watts): 0.125W, 1/8W; Temperature Coefficient: ±100ppm/°C; Supplier 1: Digi-Key; RoHS: RoHS Compliant; Category: Resistors; Stock 1: 2446504; Pricing 1: 1=0.1, 10=0.021, 25=0.0152, 100=0.0084, 250=0.00644, 500=0.00514, 1000=0.00379, 2500=0.00329 (USD); Packaging: Cut Tape (CT); Resistance (Ohms): 100k; Tolerance: ±1%; Composition: Thick Film; Features: Moisture Resistant; Operating Temperature: -55°C ~ 155°C; Package / Case: 0805 (2012 Metric); Supplier Device Package: 0805; Size / Dimension: 0.079" L x 0.049" W (2.00mm x 1.25mm); Height: 0.024" (0.60mm); Number of Terminations: 2; ComponentLink1URL: http://www.yageo.com/documents/recent/PYu-RC_Group_51_RoHS_L_04.pdf; ComponentLink1Description: http://www.yageo.com/documents/recent/PYu-RC_Group_51_RoHS_L_04.pdf; Supplier Part Number 1: 311-100KCRCT-ND
footprint R0805
pins: 1, 2

## RC0805FR-07100RL
designator R?, comment R100 1/8W
RES SMD 100 OHM 1% 1/8W 0805; Manufacturer: Yageo; Manufacturer Part Number: RC0805FR-07100RL; Resistance (Ohms): 100; Power (Watts): 0.125W, 1/8W; Temperature Coefficient: ±100ppm/°C; Supplier 1: Digi-Key; RoHS: RoHS Compliant; Category: Resistors; Stock 1: 1123764; Pricing 1: 1=0.1, 10=0.021, 25=0.0152, 100=0.0084, 250=0.00644, 500=0.00514, 1000=0.00379, 2500=0.00329 (USD); Packaging: Cut Tape (CT); Tolerance: ±1%; Composition: Thick Film; Features: Moisture Resistant; Operating Temperature: -55°C ~ 155°C; Package / Case: 0805 (2012 Metric); Supplier Device Package: 0805; Size / Dimension: 0.079" L x 0.049" W (2.00mm x 1.25mm); Height: 0.024" (0.60mm); Number of Terminations: 2; ComponentLink1URL: http://www.yageo.com/documents/recent/PYu-RC_Group_51_RoHS_L_04.pdf; ComponentLink1Description: http://www.yageo.com/documents/recent/PYu-RC_Group_51_RoHS_L_04.pdf; Supplier Part Number 1: 311-100CRCT-ND
footprint R0805
pins: 1, 2

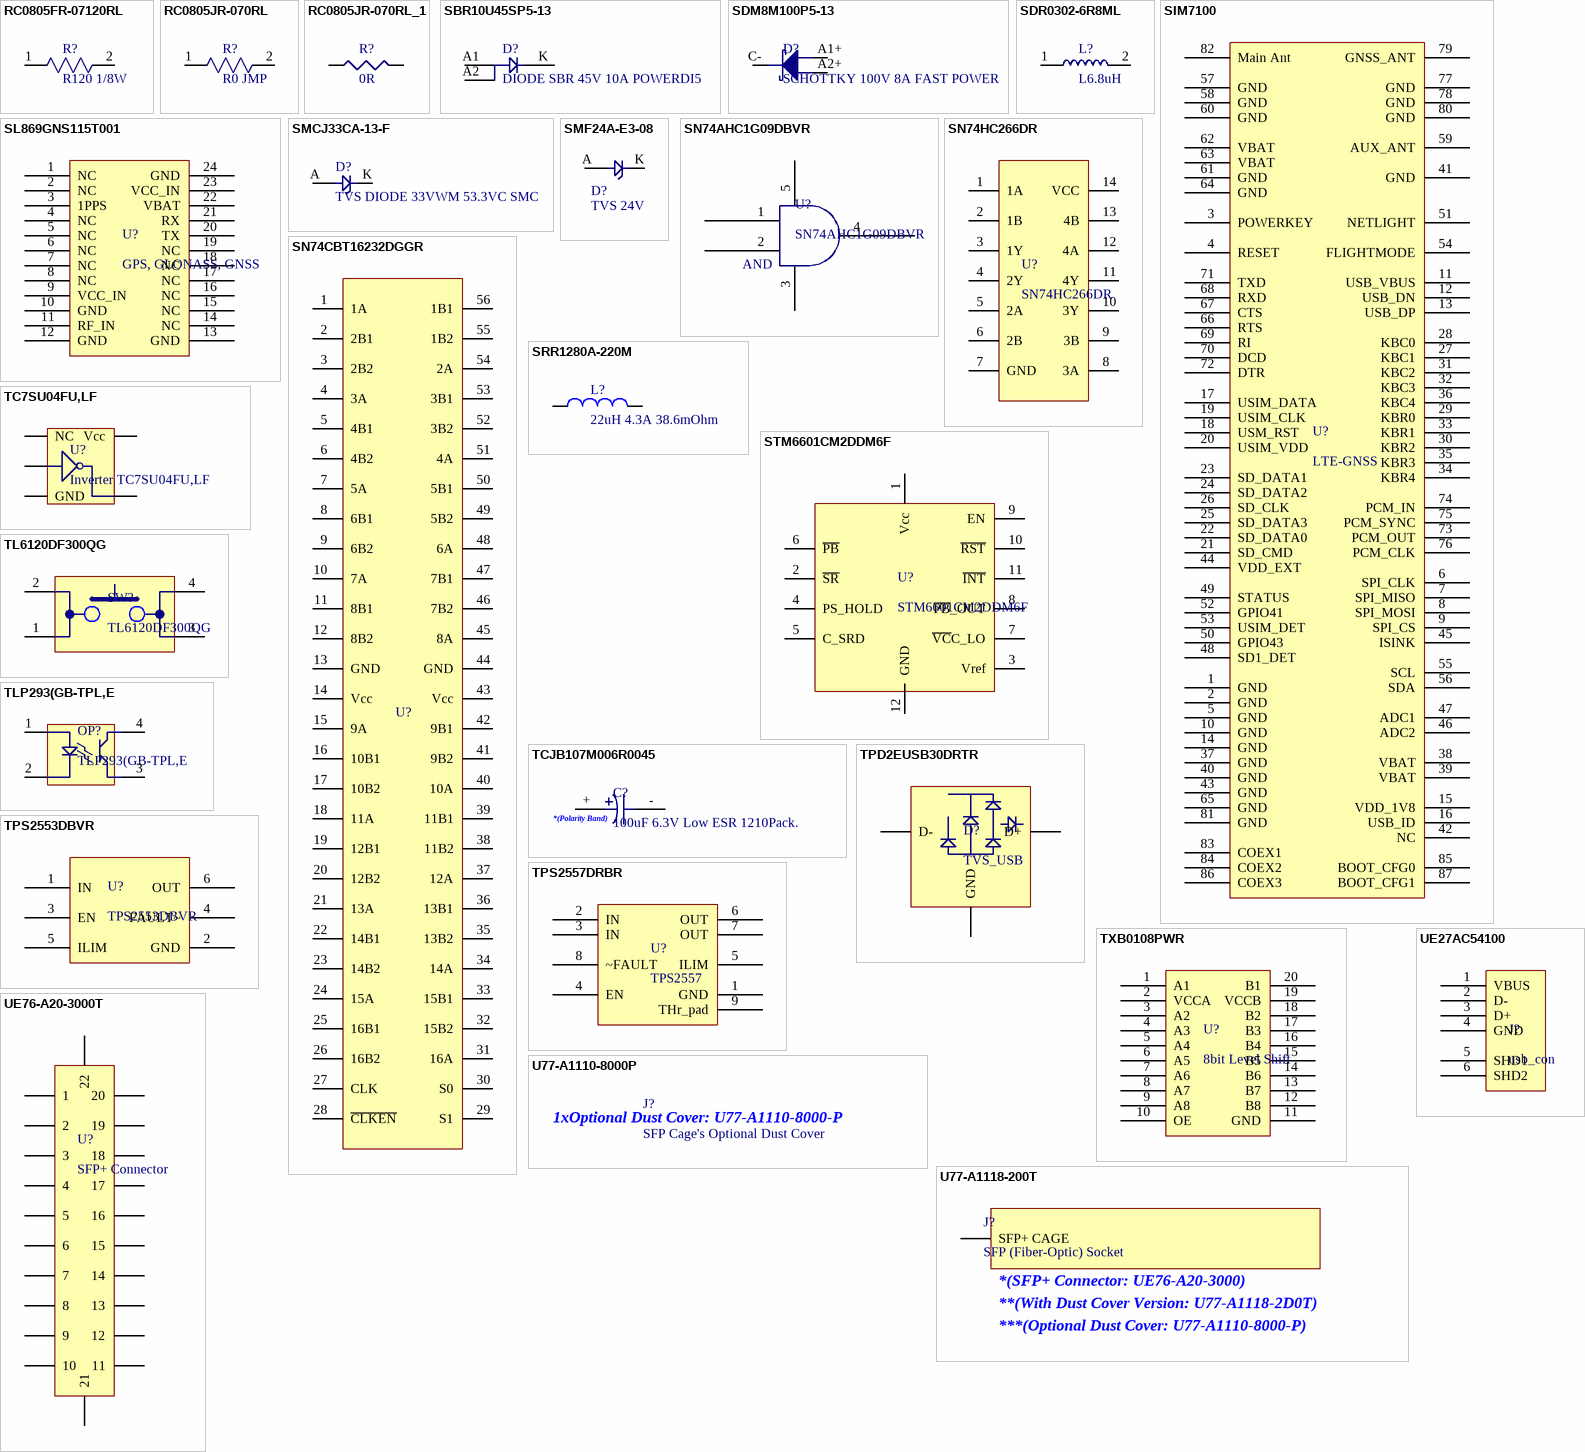
[diagram p4: symbols RC0805FR-07120RL to UE76-A20-3000T]

## RC0805FR-07120RL
designator R?, comment R120 1/8W
RES SMD 120 OHM 1% 1/8W 0805; Manufacturer: Yageo; Manufacturer Part Number: RC0805FR-07120RL; Resistance (Ohms): 120; Power (Watts): 0.125W, 1/8W; Temperature Coefficient: ±100ppm/°C; Supplier 1: Digi-Key; RoHS: RoHS Compliant; Category: Resistors; Stock 1: 99092; Pricing 1: 1=0.1, 10=0.021, 25=0.0152, 100=0.0084, 250=0.00644, 500=0.00514, 1000=0.00379, 2500=0.00329 (USD); Packaging: Cut Tape (CT); Tolerance: ±1%; Composition: Thick Film; Features: Moisture Resistant; Operating Temperature: -55°C ~ 155°C; Package / Case: 0805 (2012 Metric); Supplier Device Package: 0805; Size / Dimension: 0.079" L x 0.049" W (2.00mm x 1.25mm); Height: 0.024" (0.60mm); Number of Terminations: 2; ComponentLink1URL: http://www.yageo.com/documents/recent/PYu-RC_Group_51_RoHS_L_04.pdf; ComponentLink1Description: http://www.yageo.com/documents/recent/PYu-RC_Group_51_RoHS_L_04.pdf; Supplier Part Number 1: 311-120CRCT-ND
footprint R0805
pins: 1, 2

## RC0805JR-070RL
designator R?, comment R0 JMP
RES SMD 0.0 OHM JUMPER 1/8W 0805; Manufacturer: Yageo; Manufacturer Part Number: RC0805JR-070RL; Resistance (Ohms): 0.0; Power (Watts): 0.125W, 1/8W; Supplier 1: Digi-Key; RoHS: RoHS Compliant; Category: Resistors; Stock 1: 2343318; Pricing 1: 1=0.1, 10=0.018, 25=0.0128, 100=0.0073, 250=0.00556, 500=0.00444, 1000=0.00326, 2500=0.00283 (USD); Packaging: Cut Tape (CT); Tolerance: Jumper; Composition: Thick Film; Features: Moisture Resistant; Temperature Coefficient: -; Operating Temperature: -55°C ~ 155°C; Package / Case: 0805 (2012 Metric); Supplier Device Package: 0805; Size / Dimension: 0.079" L x 0.049" W (2.00mm x 1.25mm); Height: 0.024" (0.60mm); Number of Terminations: 2; ComponentLink1URL: http://www.yageo.com/documents/recent/PYu-RC_Group_51_RoHS_L_04.pdf; ComponentLink1Description: http://www.yageo.com/documents/recent/PYu-RC_Group_51_RoHS_L_04.pdf; Supplier Part Number 1: 311-0.0ARCT-ND
footprint R0805
pins: 1, 2

## RC0805JR-070RL_1
designator R?, comment 0R
RES SMD 0.0 OHM JUMPER 1/8W 0805; Manufacturer: Yageo; Manufacturer Part Number: RC0805JR-070RL; Resistance (Ohms): 0.0; Power (Watts): 0.125W, 1/8W; Supplier 1: Digi-Key; RoHS: RoHS Compliant; Category: Resistors; Stock: 3988911; Pricing 1: 1=0.1, 10=0.018, 25=0.0128, 50=0.0098, 100=0.0072, 250=0.00548, 500=0.0044, 1000=0.00323 (USD); Packaging: Cut Tape (CT); Part Status: Active; Tolerance: Jumper; Composition: Thick Film; Features: Moisture Resistant; Temperature Coefficient: -; Operating Temperature: -55°C ~ 155°C; Package / Case: 0805 (2012 Metric); Supplier Device Package: 0805; Size / Dimension: 0.079" L x 0.049" W (2.00mm x 1.25mm); Height - Seated (Max): 0.024" (0.60mm); Failure Rate: -; ComponentLink1URL: http://www.yageo.com/documents/recent/PYu-RC_Group_51_RoHS_L_7.pdf; ComponentLink1Description: http://www.yageo.com/documents/recent/PYu-RC_Group_51_RoHS_L_7.pdf; Supplier Part Number 1: 311-0.0ARCT-ND
footprint R0805
pins: 1, 2

## SBR10U45SP5-13
designator D?, comment DIODE SBR 45V 10A POWERDI5
Manufacturer: Diodes Incorporated; Manufacturer Part Number: SBR10U45SP5-13; Diode Type: Super Barrier; Voltage - Forward (Vf) (Max) @ If: 470mV @ 10A; Speed: Fast Recovery =< 500ns, > 200mA (Io); Current - Reverse Leakage @ Vr: 300µA @ 45V; Supplier 1: Digi-Key; RoHS: RoHS Compliant; Category: Discrete Semiconductor Products; Stock 1: 14145; Pricing 1: 1=0.77, 10=0.68, 100=0.52, 500=0.412, 1000=0.33 (USD); Packaging: Cut Tape (CT); Part Status: Active; Voltage - DC Reverse (Vr) (Max): 45V; Current - Average Rectified (Io): 10A; Reverse Recovery Time (trr): -; Capacitance @ Vr, F: -; Mounting Type: Surface Mount; Package / Case: PowerDI™ 5; Supplier Device Package: PowerDI™ 5; Operating Temperature - Junction: -65°C ~ 150°C; ComponentLink1URL: http://www.diodes.com/_files/datasheets/SBR10U45SP5.pdf; ComponentLink1Description: http://www.diodes.com/_files/datasheets/SBR10U45SP5.pdf; Supplier Part Number 1: SBR10U45SP5-13DICT-ND
footprint Diode-Rect - 3D
pins: A1 1, A2 2, K 3

## SDM8M100P5-13
designator D?, comment SCHOTTKY 100V 8A FAST POWER
DIODE SCHOTTKY 100V 8A POWERDI 5; Manufacturer: Diodes Incorporated; Manufacturer Part Number: SDM8M100P5-13; Speed: Fast Recovery =< 500ns, > 200mA (Io); Capacitance @ Vr, F: 168pF @ 4V; Supplier 1: Digi-Key; RoHS: RoHS Compliant; Category: Discrete Semiconductor Products; Stock 1: 8038; Pricing 1: 1=0.49, 10=0.42, 100=0.3134, 500=0.24626, 1000=0.19029 (USD); Packaging: Cut Tape (CT); Part Status: Active; Diode Type: Schottky; Current - Average Rectified (Io): 8A; Mounting Type: Surface Mount; Package / Case: TO-277, 3-PowerDFN; Supplier Device Package: PowerDI™ 5; Operating Temperature - Junction: -55°C ~ 175°C; ComponentLink1URL: https://www.diodes.com/assets/Datasheets/SDM8M100P5.pdf; ComponentLink1Description: https://www.diodes.com/assets/Datasheets/SDM8M100P5.pdf; Supplier Part Number 1: SDM8M100P5-13DICT-ND
footprint TO-277 3-PowerDFN_SOTFL92P650X110-3N_SDM8M100P5-13 (SOTFL, 3-Leads, Body 3.97x6.50mm, Pitch 0.92mm, IPC Medium Density)
pins: A1+ Anode1+, A2+ Anode2+, C- Cathode-

## SDR0302-6R8ML
designator L?, comment L6.8uH
FIXED IND 6.8UH 1A 180 MOHM SMD; Manufacturer: Bourns Inc.; Manufacturer Part Number: SDR0302-6R8ML; Type: Wirewound; Material - Core: Ferrite; Inductance: 6.8µH; Tolerance: ±20%; Current - Saturation: 1.2A; Shielding: Unshielded; DC Resistance (DCR): 180 mOhm Max; Q @ Freq: 18 @ 7.96MHz; Frequency - Self Resonant: 40MHz; Frequency - Test: 1kHz; Supplier 1: Digi-Key; RoHS: RoHS Compliant; Category: Inductors, Coils, Chokes; Stock 1: 8374; Pricing 1: 1=0.47, 10=0.416, 25=0.39, 50=0.338, 100=0.312, 250=0.2964, 500=0.2704, 1000=0.2288 (USD); Packaging: Cut Tape (CT); Current Rating: 1A; Ratings: -; Operating Temperature: -40°C ~ 125°C; Mounting Type: Surface Mount; Package / Case: Nonstandard; Size / Dimension: 0.118" L x 0.110" W (3.00mm x 2.80mm); Height - Seated (Max): 0.110" (2.80mm); ComponentLink1URL: http://www.bourns.com/docs/Product-Datasheets/SDR0302.pdf; ComponentLink1Description: http://www.bourns.com/docs/Product-Datasheets/SDR0302.pdf; Supplier Part Number 1: SDR0302-6R8MLCT-ND
footprint L-bourns
pins: 1, 2

## SIM7100
designator U?, comment LTE-GNSS
footprint Quad86
pins: 1 GND, 2 GND, 3 POWERKEY, 4 RESET, 5 GND, 6 SPI_CLK, 7 SPI_MISO, 8 SPI_MOSI, 9 SPI_CS, 10 GND, 11 USB_VBUS, 12 USB_DN, 13 USB_DP, 14 GND, 15 VDD_1V8, 16 USB_ID, 17 USIM_DATA, 18 USM_RST, 19 USIM_CLK, 20 USIM_VDD, 21 SD_CMD, 22 SD_DATA0, 23 SD_DATA1, 24 SD_DATA2, 25 SD_DATA3, 26 SD_CLK, 27 KBC1, 28 KBC0, 29 KBR0, 30 KBR2, 31 KBC2, 32 KBC3, 33 KBR1, 34 KBR4, 35 KBR3, 36 KBC4, 37 GND, 38 VBAT, 39 VBAT, 40 GND, 41 GND, 42 NC, 43 GND, 44 VDD_EXT, 45 ISINK, 46 ADC2, 47 ADC1, 48 SD1_DET, 49 STATUS, 50 GPIO43, 51 NETLIGHT, 52 GPIO41, 53 USIM_DET, 54 FLIGHTMODE, 55 SCL, 56 SDA, 57 GND, 58 GND, 59 AUX_ANT, 60 GND, 61 GND, 62 VBAT, 63 VBAT, 64 GND, 65 GND, 66 RTS, 67 CTS, 68 RXD, 69 RI, 70 DCD, 71 TXD, 72 DTR, 73 PCM_OUT, 74 PCM_IN, 75 PCM_SYNC, 76 PCM_CLK, 77 GND, 78 GND, 79 GNSS_ANT, 80 GND, 81 GND, 82 Main Ant, 83 COEX1, 84 COEX2, 85 BOOT_CFG0, 86 COEX3, 87 BOOT_CFG1

## SL869GNS115T001
designator U?, comment GPS, GLONASS, GNSS
MOD RX JUPITER SL869 GNSS 24LCC; Manufacturer: Telit Wireless Solutions, Inc.; Manufacturer Part Number: SL869GNS115T001; Sensitivity: -162dBm; Current - Receiving: 42mA; Data Interface: Serial, UART, USB; Antenna Connector: On-Board, Chip; Voltage - Supply: 3 V ~ 3.6 V; Supplier 1: Digi-Key; RoHS: RoHS Compliant; Category: RF/IF and RFID; Stock 1: 919; Pricing 1: 1=23.16, 10=21.36, 100=18.24, 500=16.56, 1000=15.6, 2500=15.12, 5000=14.76 (USD); Packaging: Tray; Frequency: -; Data Rate (Max): -; Modulation or Protocol: GPS, GLONASS, GNSS; Applications: General Purpose; Memory Size: -; Features: USB Interface; Operating Temperature: -40°C ~ 85°C; Package / Case: 24-SMD Module; Supplier Device Package: 24-LCC (16x12.2); ComponentLink1URL: http://www.telit.com/fileadmin/user_upload/products/Downloads/GNSS/SL869/Telit_Jupiter_SL869_Series_Datasheet.pdf; ComponentLink1Description: http://www.telit.com/fileadmin/user_upload/products/Downloads/GNSS/SL869/Telit_Jupiter_SL869_Series_Datasheet.pdf; Supplier Part Number 1: 943-1029-ND
footprint SL869
pins: 1 NC, 2 NC, 3 1PPS, 4 NC, 5 NC, 6 NC, 7 NC, 8 NC, 9 VCC_IN, 10 GND, 11 RF_IN, 12 GND, 13 GND, 14 NC, 15 NC, 16 NC, 17 NC, 18 NC, 19 NC, 20 TX, 21 RX, 22 VBAT, 23 VCC_IN, 24 GND

## SMCJ33CA-13-F
designator D?, comment TVS DIODE 33VWM 53.3VC SMC
Manufacturer: Diodes Incorporated; Manufacturer Part Number: SMCJ33CA-13-F; Type: Zener; Bidirectional Channels: 1; Voltage - Reverse Standoff (Typ): 33V; Voltage - Breakdown (Min): 36.7V; Voltage - Clamping (Max) @ Ipp: 53.3V; Current - Peak Pulse (10/1000µs): 28.1A; Power - Peak Pulse: 1500W (1.5kW); Power Line Protection: No; Supplier 1: Digi-Key; RoHS: RoHS Compliant; Category: Circuit Protection; Stock 1: 2718; Pricing 1: 1=1.43, 10=1.277, 100=0.9954, 500=0.8232, 1000=0.651 (USD); Packaging: Cut Tape (CT); Part Status: Active; Unidirectional Channels: -; Applications: General Purpose; Capacitance @ Frequency: -; Operating Temperature: -55°C ~ 150°C (TJ); Mounting Type: Surface Mount; Package / Case: DO-214AB, SMC; Supplier Device Package: SMC; ComponentLink1URL: http://www.diodes.com/_files/datasheets/ds19003.pdf; ComponentLink1Description: http://www.diodes.com/_files/datasheets/ds19003.pdf; Supplier Part Number 1: SMCJ33CA-FDICT-ND
footprint SMC-TVS-33
pins: A 1, K 2

## SMF24A-E3-08
designator D?, comment TVS 24V
TVS DIODE 24VWM 38.9VC SMF; Manufacturer: Vishay Semiconductor Diodes Division; Manufacturer Part Number: SMF24A-E3-08; Type: Zener; Unidirectional Channels: 1; Voltage - Breakdown (Min): 26.7V; Voltage - Clamping (Max) @ Ipp: 38.9V; Current - Peak Pulse (10/1000µs): 5.1A; Power - Peak Pulse: 200W; Power Line Protection: No; Capacitance @ Frequency: 244pF @ 1MHz; Supplier 1: Digi-Key; RoHS: RoHS Compliant; Category: Circuit Protection; Stock 1: 185013; Pricing 1: 1=0.47, 10=0.346, 25=0.3028, 100=0.196, 250=0.16224, 500=0.12978, 1000=0.0995 (USD); Packaging: Cut Tape (CT); Bidirectional Channels: -; Voltage - Reverse Standoff (Typ): 24V; Applications: General Purpose; Operating Temperature: -65°C ~ 175°C (TJ); Mounting Type: Surface Mount; Package / Case: DO-219AB; Supplier Device Package: SMF; ComponentLink1URL: http://www.vishay.com/docs/85881/smf5v0atosmf58a.pdf; ComponentLink1Description: http://www.vishay.com/docs/85881/smf5v0atosmf58a.pdf; Supplier Part Number 1: SMF24A-E3-08CT-ND
footprint DO219AB_3DBody
pins: A 1, K 2

## SN74AHC1G09DBVR
designator U?
IC GATE AND 1CH 2-INP SOT-23-5; Manufacturer: Texas Instruments; Logic Type: AND Gate; Number of Circuits: 1; Number of Inputs: 2; Voltage - Supply: 2 V ~ 5.5 V; Current - Quiescent (Max): 1µA; Current - Output High, Low: -, 8mA; Logic Level - Low: 0.5 V ~ 1.65 V; Logic Level - High: 1.5 V ~ 3.85 V; Max Propagation Delay @ V, Max CL: 7.5ns @ 5V, 50pF; Supplier 1: Digi-Key; Manufacturer Part Number: SN74AHC1G09DBVR; RoHS: RoHS Compliant; Category: Integrated Circuits (ICs); Stock: 14469; Pricing 1: 1=0.42, 10=0.314, 100=0.1957, 500=0.1339, 1000=0.103 (USD); Packaging: Cut Tape (CT); Part Status: Active; Features: Open Drain; Operating Temperature: -55°C ~ 125°C; Mounting Type: Surface Mount; Supplier Device Package: SOT-23-5; Package / Case: SC-74A, SOT-753; ComponentLink1URL: http://www.ti.com/lit/ds/symlink/sn74ahc1g09.pdf; ComponentLink1Description: http://www.ti.com/lit/ds/symlink/sn74ahc1g09.pdf; Supplier Part Number 1: 296-29202-1-ND
footprint DBV_SOP_23_5
pins: 1, 2, 3, 4, 5
text: AND

## SN74CBT16232DGGR
designator U?, comment 16x1:2 MUX_SN74CBT16232DGGR  (value not drawn)
IC 1-OF-2 FET MUX/DEMUX 56-TSSOP; Manufacturer: Texas Instruments; Voltage Supply Source: Single Supply; Voltage - Supply: 4.5 V ~ 5.5 V; Supplier 1: Digi-Key; Manufacturer Part Number: SN74CBT16232DGGR; RoHS: RoHS Compliant; Category: Integrated Circuits (ICs); Stock 1: 7863; Pricing 1: 1=1.57, 10=1.411, 100=1.1342, 500=0.9319, 1000=0.77214 (USD); Packaging: Cut Tape (CT); Part Status: Active; Type: Multiplexer/Demultiplexer; Circuit: 16 x 1:2; Current - Output High, Low: -; Operating Temperature: -40°C ~ 85°C; Mounting Type: Surface Mount; Package / Case: 56-TFSOP (0.240", 6.10mm Width); Supplier Device Package: 56-TSSOP; Base Part Number: 74CBT16232; ComponentLink1URL: http://www.ti.com/lit/ds/symlink/sn74cbt16232.pdf; ComponentLink1Description: http://www.ti.com/lit/ds/symlink/sn74cbt16232.pdf; Supplier Part Number 1: 296-6395-1-ND
footprint SN74CBT16232DGGR_TSSOP50P810X120-56N_3DStepProduced (TSSOP, 56-Leads, Body 14.00x6.10mm, Pitch 0.50mm, IPC Medium Density)
pins: 1 1A, 2 2B1, 3 2B2, 4 3A, 5 4B1, 6 4B2, 7 5A, 8 6B1, 9 6B2, 10 7A, 11 8B1, 12 8B2, 13 GND, 14 Vcc, 15 9A, 16 10B1, 17 10B2, 18 11A, 19 12B1, 20 12B2, 21 13A, 22 14B1, 23 14B2, 24 15A, 25 16B1, 26 16B2, 27 CLK, 28 ~{CLKEN}, 29 S1, 30 S0, 31 16A, 32 15B2, 33 15B1, 34 14A, 35 13B2, 36 13B1, 37 12A, 38 11B2, 39 11B1, 40 10A, 41 9B2, 42 9B1, 43 Vcc, 44 GND, 45 8A, 46 7B2, 47 7B1, 48 6A, 49 5B2, 50 5B1, 51 4A, 52 3B2, 53 3B1, 54 2A, 55 1B2, 56 1B1

## SN74HC266DR
designator U?
IC GATE XNOR 4CH 2-INP 14-SOIC; Manufacturer: Texas Instruments; Logic Type: XNOR (Exclusive NOR); Number of Inputs: 2; Voltage - Supply: 2 V ~ 6 V; Current - Output High, Low: -, 5.2mA; Logic Level - Low: 0.5 V ~ 1.8 V; Logic Level - High: 1.5 V ~ 4.2 V; Max Propagation Delay @ V, Max CL: 23ns @ 6V, 50pF; Supplier 1: Digi-Key; Manufacturer Part Number: SN74HC266DR; RoHS: RoHS Compliant; Category: Integrated Circuits (ICs); Stock 1: 2878; Pricing 1: 1=0.56, 10=0.479, 100=0.3576, 500=0.28098, 1000=0.21712 (USD); Packaging: Cut Tape (CT); Part Status: Active; Features: Open Drain; Operating Temperature: -40°C ~ 85°C; Mounting Type: Surface Mount; Supplier Device Package: 14-SOIC; Package / Case: 14-SOIC (0.154", 3.90mm Width); Base Part Number: 74HC266; ComponentLink1URL: http://www.ti.com/lit/ds/symlink/sn74hc266.pdf; ComponentLink1Description: http://www.ti.com/lit/ds/symlink/sn74hc266.pdf; Supplier Part Number 1: 296-31804-1-ND
footprint SN74HC266DR_SOIC127P600X175-14N - original (SOIC, 14-Leads, Body 8.65x3.90mm, Pitch 1.27mm, IPC Medium Density)
pins: 1 1A, 2 1B, 3 1Y, 4 2Y, 5 2A, 6 2B, 7 GND, 8 3A, 9 3B, 10 3Y, 11 4Y, 12 4A, 13 4B, 14 VCC

## SRR1280A-220M
designator L?, comment 22uH 4.3A 38.6mOhm
FIXED IND 22UH 4.3A 38.6 mOHM; Manufacturer: Bourns Inc.; Manufacturer Part Number: SRR1280A-220M; Material - Core: Ferrite; Tolerance: ±20%; Shielding: Shielded; DC Resistance (DCR): 38.6 mOhm Max; Q @ Freq: 20 @ 2.52MHz; Supplier 1: Digi-Key; RoHS: RoHS Compliant; Category: Inductors, Coils, Chokes; Stock 1: 2460; Pricing 1: 1=1.3, 10=1.211, 100=0.8756 (USD); Packaging: Cut Tape (CT); Part Status: Active; Type: -; Ratings: AEC-Q200; Operating Temperature: -40°C ~ 125°C; Mounting Type: Surface Mount; Package / Case: Nonstandard; Supplier Device Package: 1280; Size / Dimension: 0.492" L x 0.492" W (12.50mm x 12.50mm); Height - Seated (Max): 0.315" (8.00mm); ComponentLink1URL: http://www.bourns.com/docs/Product-Datasheets/SRR1280A.pdf; ComponentLink1Description: http://www.bourns.com/docs/Product-Datasheets/SRR1280A.pdf; Supplier Part Number 1: SRR1280A-220MCT-ND
footprint Inductor SRR1280A-220M - Original3D (Precision Wire Wound Inductor, 2-Leads, Body 12.50x12.50mm, IPC Medium Density)
pins: 1, 2